# EAGLE library part L293DNE (library LED Driver)
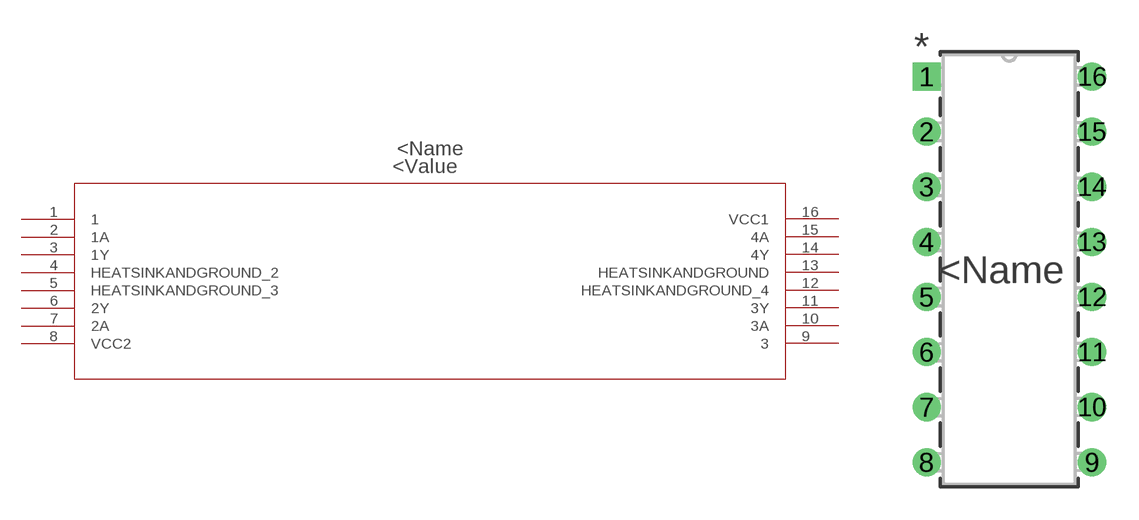
[diagram p3: symbol with the pads of NE16; footprint NE16]

Designator prefix -

## L293DNE (COPYRIGHT: Copyright C 2015 Accelerated Designs. All rights reserved; DESCRIPTION: Quadruple HalfH Drivers L293DNE; FAMILY: Unknown; MANUFACTURER_NAME: Texas Instruments; MANUFACTURER_PART_NUMBER: L293DNE; RSPARTNUMBER: 526868; SECTION: Unknown; VENDOR: Texas Instruments)  [NE16]
1  1  pas
2  1A  in
3  1Y  out
4  HEATSINKANDGROUND_2  pas
5  HEATSINKANDGROUND_3  pas
6  2Y  out
7  2A  in
8  VCC2  pwr
9  3  pas
10  3A  in
11  3Y  out
12  HEATSINKANDGROUND_4  pas
13  HEATSINKANDGROUND  pas
14  4Y  out
15  4A  in
16  VCC1  pwr

## Footprint NE16 (pad centres in mm)
drill 0.787 pad 1.295 square: 1 -7.62,17.78
drill 0.787 pad 1.295: 2 -7.62,15.24; 3 -7.62,12.7; 4 -7.62,10.16; 5 -7.62,7.62; 6 -7.62,5.08; 7 -7.62,2.54; 8 -7.62,0; 9 0,0; 10 0,2.54; 11 0,5.08; 12 0,7.62; 13 0,10.16; 14 0,12.7; 15 0,15.24; 16 0,17.78